# Altium footprint library FlyBack.PcbLib: 2 footprints
Each footprint in its own frame and in the unit in brackets; x right, y up, seen from the top. Pads: shape width x height; smd on the part's side, far side on the other; paste and mask are expansions set on the pad; w line width, h text height; cw(c..) or ccw(c..) is an arc to the next point about the centre after c.
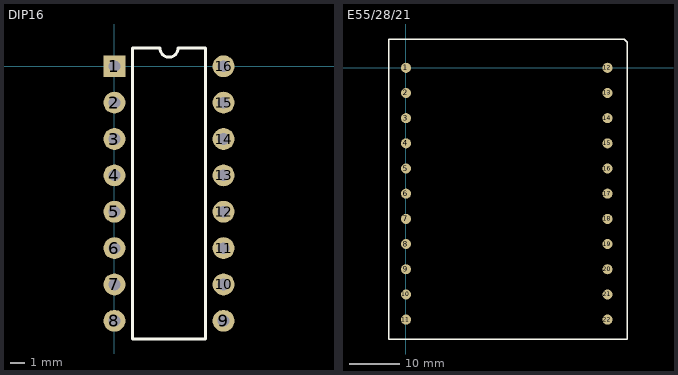
[diagram p0: the footprints below, top view; thin cyan lines are the x and y axes]

## DIP16 [mil]
pads (16):
  rect 60x60 hole 32: 1(0,0)
  round 60 hole 32: 2(0,-100) 3(0,-200) 4(0,-300) 5(0,-400) 6(0,-500) 7(0,-600) 8(0,-700) 9(300,-700) 10(300,-600) 11(300,-500) 12(300,-400) 13(300,-300) 14(300,-200) 15(300,-100) 16(300,0)
Top Overlay:
  lines w7.87: 50,-750 50,50 125,50 ccw(c150,50) 175,50 250,50 250,-750 50,-750
3D body "DIP16.step": height 78.03, standoff -220, extent -3,-743.7 306.84,43.7

## E55/28/21 [mm] "Transistor Coil E55/28/21"
pads (22):
  round 2 hole 0.3: 1(0,0) 2(0,-5) 3(0,-10) 4(0,-15) 5(0,-20) 6(0,-25) 7(0,-30) 8(0,-35) 9(0,-40) 10(0,-45) 11(0,-50) 12(40,0) 13(40,-5) 14(40,-10) 15(40,-15) 16(40,-20) 17(40,-25) 18(40,-30) 19(40,-35) 20(40,-40) 21(40,-45) 22(40,-50)
Top Overlay:
  lines w0.254: -3.429,-53.848 43.942,-53.848 43.942,5.08 43.307,5.715 -3.429,5.715 -3.429,4.953 -3.429,-53.848